# Altium footprint library connector.PcbLib: 80 footprints (part 5 of 5)
Each footprint in its own frame and in the unit in brackets; x right, y up, seen from the top. Pads: shape width x height; smd on the part's side, far side on the other; paste and mask are expansions set on the pad; w line width, h text height; cw(c..) or ccw(c..) is an arc to the next point about the centre after c.
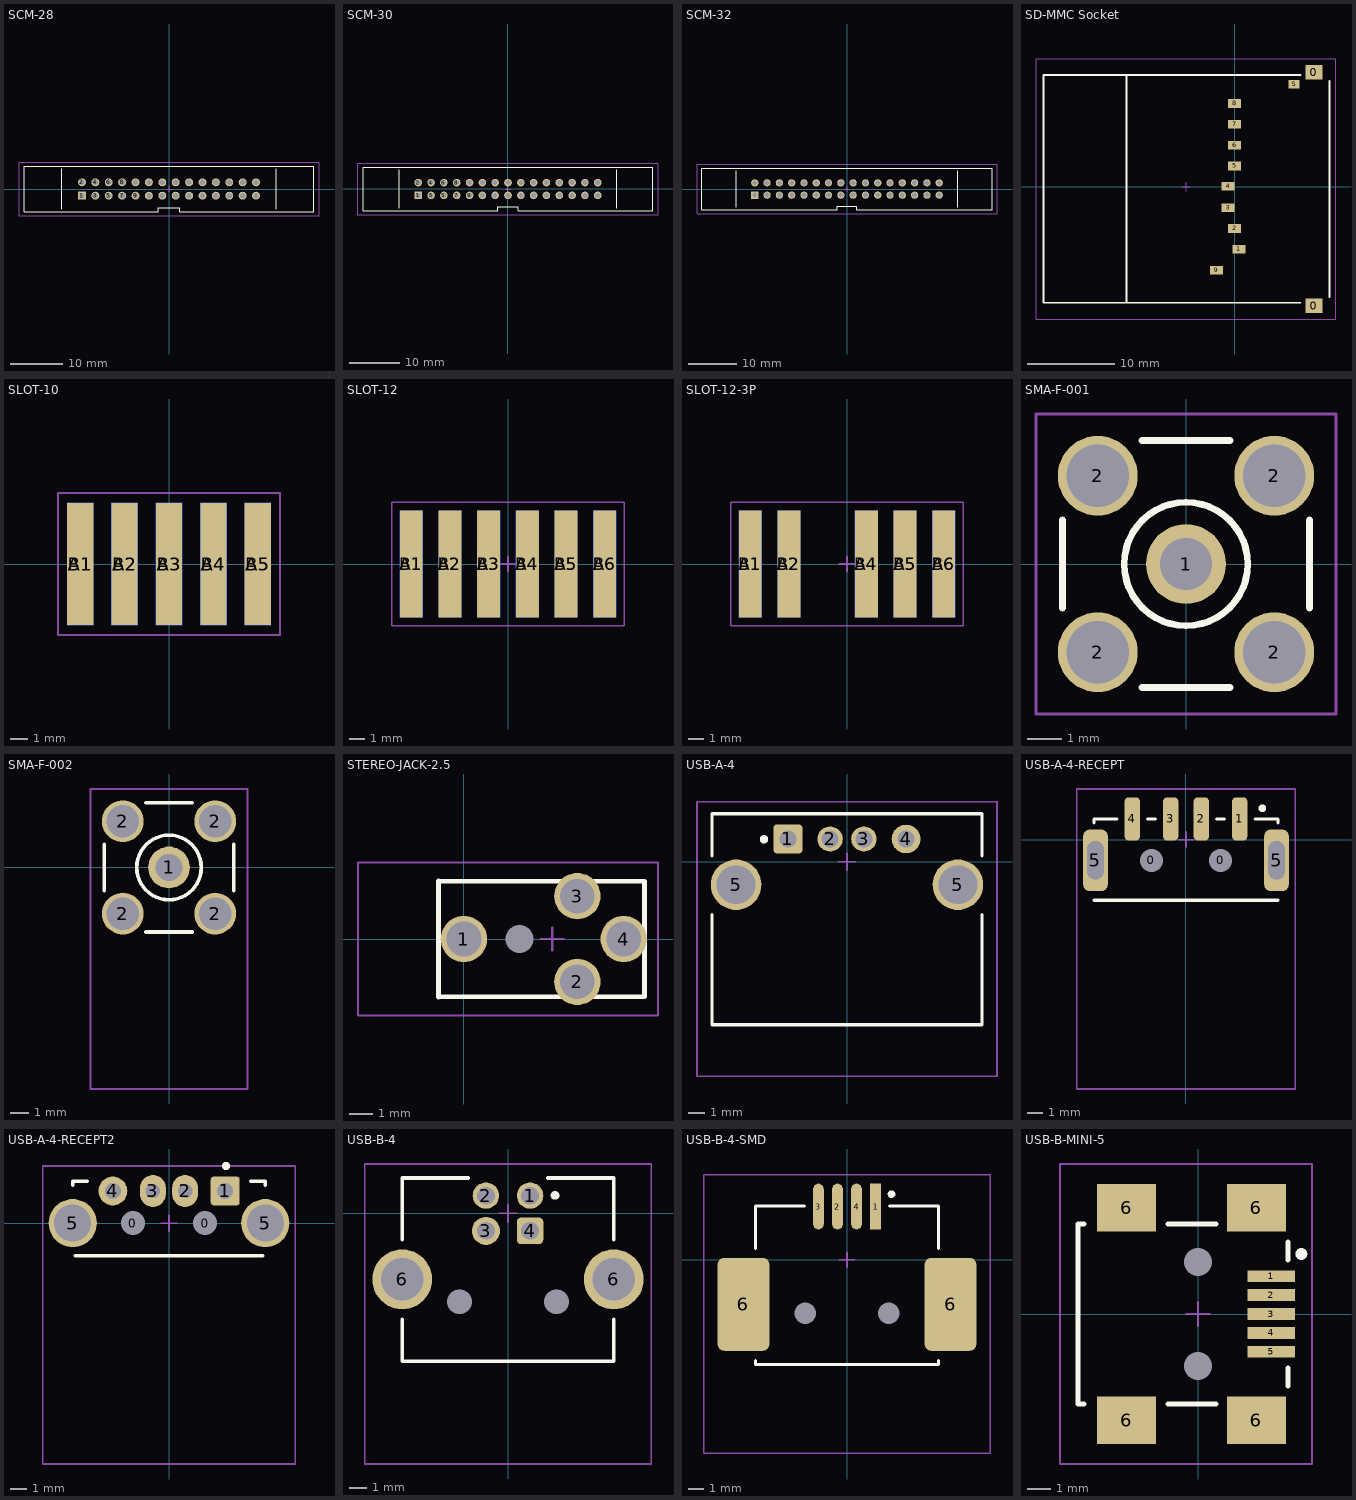
[diagram p4: the footprints below, top view; thin cyan lines are the x and y axes]

## SCM-28 [mm]
pads (28):
  rect 1.5x1.5 hole 1: 1(-16.51,-1.27)
  round 1.5 hole 1: 2(-16.51,1.27) 3(-13.97,-1.27) 4(-13.97,1.27) 5(-11.43,-1.27) 6(-11.43,1.27) 7(-8.89,-1.27) 8(-8.89,1.27) 9(-6.35,-1.27) 10(-6.35,1.27) 11(-3.81,-1.27) 12(-3.81,1.27) 13(-1.27,-1.27) 14(-1.27,1.27) 15(1.27,-1.27) 16(1.27,1.27) 17(3.81,-1.27) 18(3.81,1.27) 19(6.35,-1.27) 20(6.35,1.27) 21(8.89,-1.27) 22(8.89,1.27) 23(11.43,-1.27) 24(11.43,1.27) 25(13.97,-1.27) 26(13.97,1.27) 27(16.51,-1.27) 28(16.51,1.27)
Top Overlay:
  lines w0.15: -20.32,-3.81 -20.32,3.81 ; 20.32,-3.81 20.32,3.81 ; -27.432,-4.318 -2.032,-4.318 -2.032,-3.556 2.032,-3.556 2.032,-4.318 27.432,-4.318 27.432,4.318 -27.432,4.318 -27.432,-4.318
Mechanical 13:
  lines w0.1: -28.448,-5.08 28.448,-5.08 28.448,5.08 -28.448,5.08 -28.448,-5.08
  text ".Designator" at -1.778,-1.016 h2
Mechanical 15:
  lines w0.05: -28.448,-5.08 28.448,-5.08 28.448,5.08 -28.448,5.08 -28.448,-5.08
  lines w0.1: -0.5,0 0.5,0 ; 0,-0.5 0,0.5

## SCM-30 [mm]
pads (30):
  rect 1.5x1.5 hole 1: 1(-17.78,-1.27)
  round 1.5 hole 1: 2(-17.78,1.27) 3(-15.24,-1.27) 4(-15.24,1.27) 5(-12.7,-1.27) 6(-12.7,1.27) 7(-10.16,-1.27) 8(-10.16,1.27) 9(-7.62,-1.27) 10(-7.62,1.27) 11(-5.08,-1.27) 12(-5.08,1.27) 13(-2.54,-1.27) 14(-2.54,1.27) 15(0,-1.27) 16(0,1.27) 17(2.54,-1.27) 18(2.54,1.27) 19(5.08,-1.27) 20(5.08,1.27) 21(7.62,-1.27) 22(7.62,1.27) 23(10.16,-1.27) 24(10.16,1.27) 25(12.7,-1.27) 26(12.7,1.27) 27(15.24,-1.27) 28(15.24,1.27) 29(17.78,-1.27) 30(17.78,1.27)
Top Overlay:
  lines w0.15: -21.59,-3.81 -21.59,3.81 ; 21.59,-3.81 21.59,3.81 ; -28.702,-4.318 -2.032,-4.318 -2.032,-3.556 2.032,-3.556 2.032,-4.318 28.702,-4.318 28.702,4.318 -28.702,4.318 -28.702,-4.318
Mechanical 13:
  lines w0.1: -29.718,-5.08 -29.718,5.08 29.718,5.08 29.718,-5.08 -29.718,-5.08
  text ".Designator" at -1.778,-1.016 h2
Mechanical 15:
  lines w0.05: -29.718,-5.08 -29.718,5.08 29.718,5.08 29.718,-5.08 -29.718,-5.08
  lines w0.1: -0.5,0 0.5,0 ; 0,-0.5 0,0.5

## SCM-32 [mm]
pads (32):
  rect 1.5x1.5 hole 1: 1(-19.05,-1.27)
  round 1.5 hole 1: 2(-19.05,1.27) 3(-16.51,-1.27) 4(-16.51,1.27) 5(-13.97,-1.27) 6(-13.97,1.27) 7(-11.43,-1.27) 8(-11.43,1.27) 9(-8.89,-1.27) 10(-8.89,1.27) 11(-6.35,-1.27) 12(-6.35,1.27) 13(-3.81,-1.27) 14(-3.81,1.27) 15(-1.27,-1.27) 16(-1.27,1.27) 17(1.27,-1.27) 18(1.27,1.27) 19(3.81,-1.27) 20(3.81,1.27) 21(6.35,-1.27) 22(6.35,1.27) 23(8.89,-1.27) 24(8.89,1.27) 25(11.43,-1.27) 26(11.43,1.27) 27(13.97,-1.27) 28(13.97,1.27) 29(16.51,-1.27) 30(16.51,1.27) 31(19.05,-1.27) 32(19.05,1.27)
Top Overlay:
  lines w0.15: -22.86,-3.81 -22.86,3.81 ; 22.86,-3.81 22.86,3.81 ; -29.972,-4.318 -29.972,4.318 29.972,4.318 29.972,-4.318 2.032,-4.318 2.032,-3.556 -2.032,-3.556 -2.032,-4.318 -29.972,-4.318
Mechanical 13:
  lines w0.1: -30.988,-5.08 30.988,-5.08 30.988,5.08 -30.988,5.08 -30.988,-5.08
  text ".Designator" at -1.778,-1.016 h2
Mechanical 15:
  lines w0.05: -30.988,-5.08 30.988,-5.08 30.988,5.08 -30.988,5.08 -30.988,-5.08
  lines w0.1: -0.5,0 0.5,0 ; 0,-0.5 0,0.5

## SD-MMC Socket [mm]
pads (12):
  rect 2x1.7 smd: 0(9.15,-13.7) 0(9.15,13.2)
  rect 1.5x1 smd: 1(0.5,-7.2) 2(0,-4.8) 3(-0.75,-2.4) 4(-0.75,0.064) 5(0,2.4) 6(0,4.8) 7(0,7.2) 8(0,9.6) 9(-2.1,-9.6)
  rect 1.3x1 smd: S(6.85,11.8)
Top Overlay:
  lines w0.2: 7.62,-13.34 -12.45,-13.34 ; 7.62,12.86 -12.45,12.86 ; 10.922,-12.7 10.922,12.192 ; -12.45,-13.34 -22,-13.34 -22,12.86 -12.45,12.86 ; -12.45,-13.34 -12.45,12.86
Mechanical 13:
  lines w0.1: -22.86,-15.24 11.684,-15.24 11.684,14.732 -22.86,14.732 -22.86,-15.24
  text ".Designator" at -7.62,-1.27 h2
Mechanical 15:
  lines w0.05: -22.86,-15.24 11.684,-15.24 11.684,14.732 -22.86,14.732 -22.86,-15.24
  lines w0.1: -6.088,0 -5.088,0 ; -5.588,-0.5 -5.588,0.5

## SLOT-10 [mm]
pads (10):
  rect 1.5x7 smd: A1(-5.08,0) A2(-2.54,0) A3(0,0) A4(2.54,0) A5(5.08,0)
  rect 1.5x7 smd far side: B1(-5.08,0) B2(-2.54,0) B3(0,0) B4(2.54,0) B5(5.08,0)
Mechanical 13:
  lines w0.1: -6.35,-4.064 -6.35,4.064 6.35,4.064 6.35,-4.064 -6.35,-4.064
  text ".Designator" at -2.286,-1.016 h2
Mechanical 15:
  lines w0.05: -6.35,-4.064 -6.35,4.064 6.35,4.064 6.35,-4.064 -6.35,-4.064
  lines w0.1: -0.5,0 0.5,0 ; 0,-0.5 0,0.5

## SLOT-12 [mm]
pads (12):
  rect 1.5x7 smd: A1(-6.35,0) A2(-3.81,0) A3(-1.27,0) A4(1.27,0) A5(3.81,0) A6(6.35,0)
  rect 1.5x7 smd far side: B1(-6.35,0) B2(-3.81,0) B3(-1.27,0) B4(1.27,0) B5(3.81,0) B6(6.35,0)
Mechanical 13:
  lines w0.1: -7.62,-4.064 -7.62,4.064 7.62,4.064 7.62,-4.064 -7.62,-4.064
  text ".Designator" at -2.286,-1.016 h2
Mechanical 15:
  lines w0.05: -7.62,-4.064 -7.62,4.064 7.62,4.064 7.62,-4.064 -7.62,-4.064
  lines w0.1: -0.5,0 0.5,0 ; 0,-0.5 0,0.5

## SLOT-12-3P [mm]
pads (10):
  rect 1.5x7 smd: A1(-6.35,0) A2(-3.81,0) A4(1.27,0) A5(3.81,0) A6(6.35,0)
  rect 1.5x7 smd far side: B1(-6.35,0) B2(-3.81,0) B4(1.27,0) B5(3.81,0) B6(6.35,0)
Mechanical 13:
  lines w0.1: -7.62,-4.064 7.62,-4.064 7.62,4.064 -7.62,4.064 -7.62,-4.064
  text ".Designator" at -2.286,-1.016 h2
Mechanical 15:
  lines w0.05: -7.62,-4.064 7.62,-4.064 7.62,4.064 -7.62,4.064 -7.62,-4.064
  lines w0.1: -0.5,0 0.5,0 ; 0,-0.5 0,0.5

## SMA-F-001 [mm]
pads (5):
  round 2.3 hole 1.5: 1(0,0)
  round 2.3 hole 1.8: 2(-2.54,-2.54) 2(-2.54,2.54) 2(2.54,-2.54) 2(2.54,2.54)
Top Overlay:
  circle w0.2: c0,0 r1.778
  lines w0.203: -3.556,-1.27 -3.556,1.27 ; -1.27,-3.556 1.27,-3.556 ; -1.27,3.556 1.27,3.556 ; 3.556,-1.27 3.556,1.27
Mechanical 13:
  lines w0.1: -4.318,-4.318 4.318,-4.318 4.318,4.318 -4.318,4.318 -4.318,-4.318
  text ".Designator" at -2.286,-1.016 h2
Mechanical 15:
  lines w0.05: -4.318,-4.318 4.318,-4.318 4.318,4.318 -4.318,4.318 -4.318,-4.318
  lines w0.1: -0.5,0 0.5,0 ; 0,-0.5 0,0.5
3D body: height 3.5, standoff 0.5, extent -3.556,-3.556 3.556,3.556
3D body: height 9.5, standoff 3.5, extent -3.2,-3.197 3.2,3.197

## SMA-F-002 [mm]
pads (5):
  round 2.3 hole 1.5: 1(0,0)
  round 2.3 hole 1.8: 2(-2.54,-2.54) 2(-2.54,2.54) 2(2.54,-2.54) 2(2.54,2.54)
Top Overlay:
  circle w0.2: c0,0 r1.778
  lines w0.203: -3.556,-1.27 -3.556,1.27 ; -1.27,-3.556 1.27,-3.556 ; -1.27,3.556 1.27,3.556 ; 3.556,-1.27 3.556,1.27
Mechanical 13:
  lines w0.1: -4.318,-12.192 -4.318,4.318 4.318,4.318 4.318,-12.192 -4.318,-12.192
  text ".Designator" at -2.286,-5.08 h2
Mechanical 15:
  lines w0.05: -4.318,-12.192 -4.318,4.318 4.318,4.318 4.318,-12.192 -4.318,-12.192
  lines w0.1: -0.5,0 0.5,0 ; 0,-0.5 0,0.5
3D body: height 3, standoff 0.5, extent -3.556,-3.556 3.556,3.556
3D body: height 9.5, standoff 3, extent -3.048,-3.048 3.048,3.048
3D body: height 9.7, standoff 3.3, extent -3.197,-11.43 3.197,-3.048

## STEREO-JACK-2.5 [mm]
pads (5):
  round 0 hole 1.2: 0(2.4,0)
  round 2 hole 1.5: 1(0,0) 2(4.9,-1.85) 3(4.9,1.85) 4(6.9,0)
Top Overlay:
  lines w0.2: -1.1,-2.5 7.8,-2.5 7.8,2.5 -1.1,2.5
  lines w0.203: -1.1,-2.5 -1.1,2.5
Mechanical 13:
  lines w0.1: -4.572,-3.302 -4.572,3.302 8.382,3.302 8.382,-3.302 -4.572,-3.302
  text ".Designator" at -0.508,-1.016 h2
Mechanical 15:
  lines w0.05: -4.572,-3.302 -4.572,3.302 8.382,3.302 8.382,-3.302 -4.572,-3.302
  lines w0.1: 3.31,0 4.31,0 ; 3.81,-0.5 3.81,0.5

## USB-A-4 [mm]
pads (6):
  rrect20% 1.7x1.7 hole 1: 1(-3.5,1.355)
  round 1.5 hole 1: 2(-1,1.355) 3(1,1.355)
  round 1.7 hole 1: 4(3.5,1.355)
  round 3 hole 2.3: 5(-6.57,-1.355) 5(6.57,-1.355)
Top Overlay:
  circle w0.25: c-4.919,1.339 r0.125
  lines w0.2: -8,-3.145 -8,-9.645 8,-9.645 8,-3.145 ; -8,0.355 -8,2.855 8,2.855 8,0.355
Mechanical 13:
  lines w0.1: -8.89,-12.7 8.89,-12.7 8.89,3.556 -8.89,3.556 -8.89,-12.7
  text ".Designator" at -2.286,-5.588 h2
Mechanical 15:
  lines w0.05: -8.89,-12.7 8.89,-12.7 8.89,3.556 -8.89,3.556 -8.89,-12.7
  lines w0.1: -0.5,0 0.5,0 ; 0,-0.5 0,0.5

## USB-A-4-RECEPT [mm]
pads (8):
  round 1 hole 1.5: 0(-2.25,-1.35) 0(2.25,-1.35)
  rrect50% 1x2.8 smd: 1(3.5,1.35) 2(1,1.35) 3(-1,1.35) 4(-3.5,1.35)
  rrect50% 1.6x4 hole 1.1 slot 2.5 at 90 deg: 5(-5.9,-1.35) 5(5.9,-1.35)
Top Overlay:
  circle w0.25: c4.975,2.048 r0.125
  lines w0.2: -6,-3.95 6,-3.95 ; -6,1.1 -6,1.35 -4.5,1.35 ; -2.5,1.35 -2,1.35 ; 2,1.35 2.5,1.35 ; 4.5,1.35 6,1.35 6,1.1
Mechanical 13:
  lines w0.1: -7.112,-16.256 7.112,-16.256 7.112,3.302 -7.112,3.302 -7.112,-16.256
  text ".Designator" at -2.286,-3.556 h2
Mechanical 15:
  lines w0.05: -7.112,-16.256 -7.112,3.302 7.112,3.302 7.112,-16.256 -7.112,-16.256
  lines w0.1: -0.5,0 0.5,0 ; 0,-0.5 0,0.5

## USB-A-4-RECEPT2 [mm]
pads (8):
  round 1 hole 1.5: 0(-2.25,0) 0(2.25,0)
  rrect20% 1.8x1.8 hole 1: 1(3.5,2)
  oval 1.6x2 hole 0.9: 2(1,2) 3(-1,2)
  round 1.8 hole 1: 4(-3.5,2)
  round 3 hole 2.3: 5(-6,0) 5(6,0)
Top Overlay:
  circle w0.25: c3.556,3.556 r0.125
  lines w0.2: -6,2.35 -6,2.6 -5.08,2.6 ; -5.842,-2.032 5.842,-2.032 ; 5.08,2.6 6,2.6 6,2.35
Mechanical 13:
  lines w0.1: -7.874,-15.006 7.874,-15.006 7.874,3.556 -7.874,3.556 -7.874,-15.006
  text ".Designator" at -2.286,-1.27 h2
Mechanical 15:
  lines w0.05: -7.874,-15.006 -7.874,3.556 7.874,3.556 7.874,-15.006 -7.874,-15.006
  lines w0.1: -0.5,0 0.5,0 ; 0,-0.5 0,0.5

## USB-B-4 [mm]
pads (8):
  round 0 hole 1.4: 0(-2.75,-5.024) 0(2.75,-5.024)
  round 1.5 hole 1: 1(1.25,1) 2(-1.25,1)
  round 1.6 hole 1: 3(-1.25,-1)
  rrect30% 1.5x1.5 hole 1: 4(1.25,-1)
  round 3.4 hole 2.4: 6(-6,-3.75) 6(6,-3.75)
Top Overlay:
  circle w0.25: c2.669,1.016 r0.125
  lines w0.2: -6,-6 -6,-8.382 6,-8.382 6,-6 ; -6,-1.5 -6,2 -2.25,2 ; 2.25,2 6,2 6,-1.5
Mechanical 13:
  lines w0.1: -8.128,-14.224 -8.128,2.794 8.128,2.794 8.128,-14.224 -8.128,-14.224
  text ".Designator" at -2.286,-4.318 h2
Mechanical 15:
  lines w0.05: -8.128,-14.224 8.128,-14.224 8.128,2.794 -8.128,2.794 -8.128,-14.224
  lines w0.1: -0.5,0 0.5,0 ; 0,-0.5 0,0.5

## USB-B-4-SMD [mm]
pads (8):
  round 0 hole 1.4: 0(-2.75,-3.5) 0(2.75,-3.5)
  rect 0.7x3 smd: 1(1.875,3.5)
  oval 0.7x3 smd: 2(-0.625,3.5) 3(-1.875,3.5) 4(0.625,3.5)
  rrect25% 3.4x6.1 smd: 6(-6.8,-2.92) 6(6.8,-2.92)
Top Overlay:
  circle w0.25: c2.923,4.318 r0.125
  lines w0.2: -6,-6.604 -6,-6.858 6,-6.858 6,-6.604 ; -6,0.762 -6,3.524 -2.794,3.524 ; 2.794,3.524 6,3.524 6,0.762
Mechanical 13:
  lines w0.1: -9.398,-12.7 9.398,-12.7 9.398,5.588 -9.398,5.588 -9.398,-12.7
  text ".Designator" at -2.286,-1.016 h2
Mechanical 15:
  lines w0.05: -9.398,-12.7 9.398,-12.7 9.398,5.588 -9.398,5.588 -9.398,-12.7
  lines w0.1: -0.5,0 0.5,0 ; 0,-0.5 0,0.5

## USB-B-MINI-5 [mm]
pads (11):
  round 0 hole 1.2: 0(0,-2.2) 0(0,2.2)
  rect 2x0.5 smd: 1(3.1,1.6) 2(3.1,0.8) 3(3.1,0) 4(3.1,-0.8) 5(3.1,-1.6)
  rect 2.5x2 smd: 6(-3.025,-4.5) 6(-3.025,4.5) 6(2.475,-4.5) 6(2.475,4.5)
Top Overlay:
  circle w0.25: c4.375,2.54 r0.125
  lines w0.2: -4.826,-3.81 -5.08,-3.81 -5.08,3.81 -4.826,3.81 ; -1.27,-3.81 0.762,-3.81 ; -1.27,3.81 0.762,3.81 ; 3.81,-3.048 3.81,-2.286 ; 3.81,2.286 3.81,3.048
Mechanical 13:
  lines w0.1: -5.842,-6.35 -5.842,6.35 4.826,6.35 4.826,-6.35 -5.842,-6.35
  text ".Designator" at -2.54,-1.016 h2
Mechanical 15:
  lines w0.05: -5.842,-6.35 -5.842,6.35 4.826,6.35 4.826,-6.35 -5.842,-6.35
  lines w0.1: -0.5,0 0.5,0 ; 0,-0.5 0,0.5